# EAGLE library part 61300711021 (library Board-to-Board (rev18a))
WR-PHD 2.54mm Angled Pin Header, 7 Pins =>Con_BTB_PHD_2.54_1_THT_61300711021 <http://katalog.we-online.de/media/images/eican/Con_BTB_PHD_2.54_1_THT_61303211021_pf2.jpg> Details see: http://katalog.we-online.de/en/em/613_0xx_110_21 Created 2014-05-29, Karrer Zheng 2014 (C) Würth Elektronik
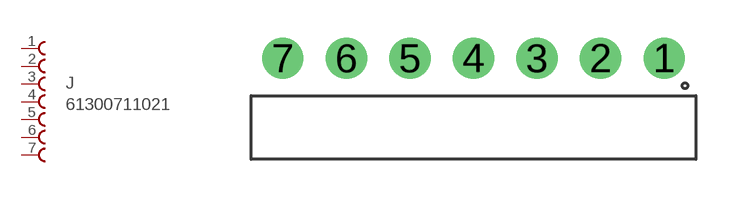
[diagram p40: symbol with the pads of 61300711021; footprint 61300711021]

Designator prefix J

## 61300711021  [61300711021]
1  1  pas
2  2  pas
3  3  pas
4  4  pas
5  5  pas
6  6  pas
7  7  pas

## Footprint 61300711021 (pad centres in mm)
WR-PHD 2.54mm Angled Pin Header, 7 Pins
drill 1.1: 1 7.62,0; 2 5.08,0; 3 2.54,0; 4 0,0; 5 -2.54,0; 6 -5.08,0; 7 -7.62,0